# EAGLE library part OPT3002 (library TIcustom)
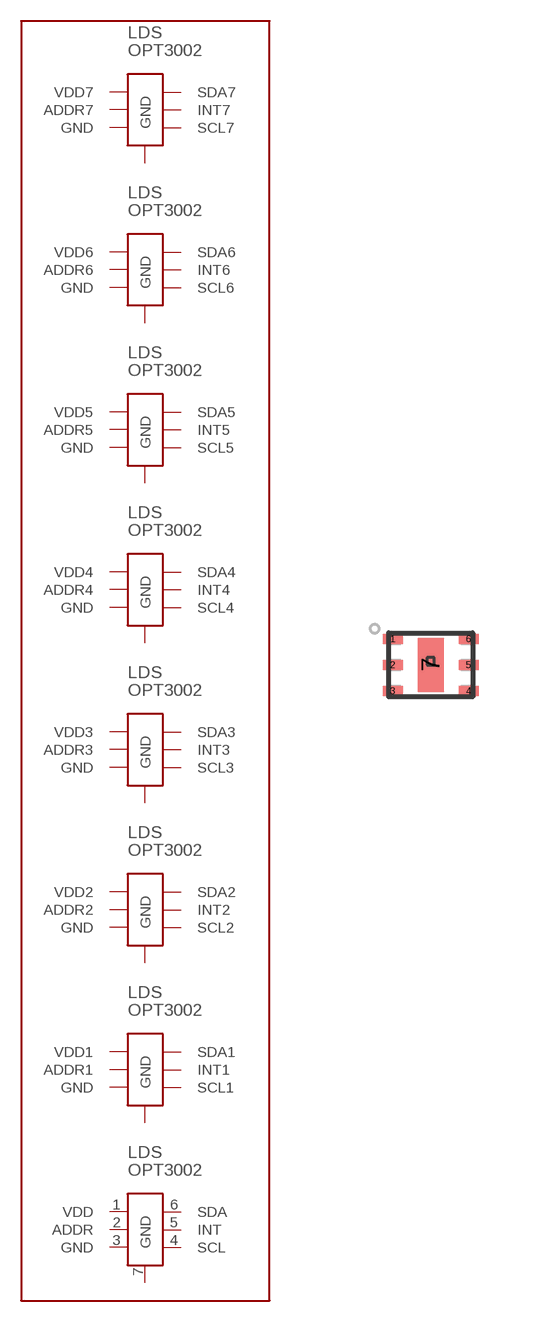
[diagram p0: symbol with the pads of OPT3002; footprint OPT3002]

Designator prefix LDS

## OPT3002  [OPT3002]
1  VDD
2  ADDR
3  GND
4  SCL
5  INT
6  SDA
7  GND

## Footprint OPT3002 (pad centres in mm)
smd 0.5 x 0.25: 1 -0.95,0.56; 2 -0.95,-0.09; 3 -0.95,-0.74; 4 0.95,-0.74; 5 0.95,-0.09; 6 0.95,0.56
smd 0.65 x 1.35: 7 0,-0.09